# EAGLE library part MS5611 (library Custom_old)
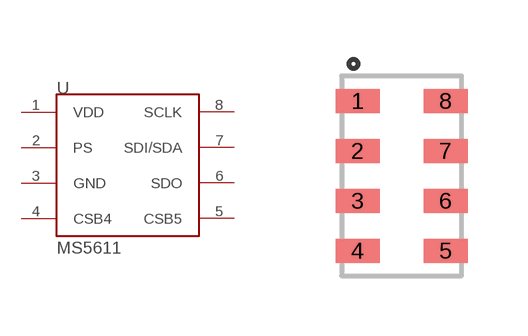
[diagram p6: symbol with the pads of MS5611; footprint MS5611]

Designator prefix -

## MS5611  [MS5611]
1  VDD
2  PS
3  GND
4  CSB4
5  CSB5
6  SDO
7  SDI/SDA
8  SCLK

## Footprint MS5611 (pad centres in mm)
smd 1.1 x 0.6: 1 -1.1,1.875; 2 -1.1,0.625; 3 -1.1,-0.625; 4 -1.1,-1.875; 5 1.1,-1.875; 6 1.1,-0.625; 7 1.1,0.625; 8 1.1,1.875